# Altium schematic symbol library NEO-M8.SchLib: 1 symbol
Pins are listed as number, name and electrical type; pins without a type are passive.

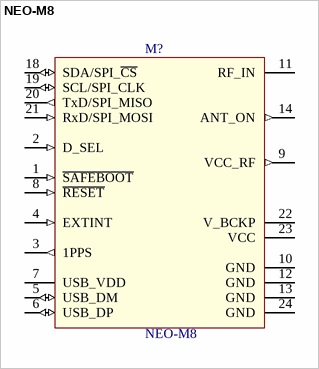
[diagram p0: symbol NEO-M8]

## NEO-M8
designator M?
NEO-M8 concurrent GNSS modules; value: NEO-M8
footprint NEO-M8N (UBlox GNSS module)
pins: 1 ~{SAFEBOOT} (in) "Reserved for future service, updates and reconfiguration, leave OPEN", 2 D_SEL (in), 3 1PPS (out), 4 EXTINT (in), 5 USB_DM (io), 6 USB_DP (io), 7 USB_VDD (power), 8 ~{RESET} (in), 9 VCC_RF (out), 10 GND (power), 11 RF_IN, 12 GND (power), 13 GND (power), 14 ANT_ON (out) "Antenna control", 18 SDA/SPI_~{CS} (io) "DDC Data if D_SEL =1 (or open)  SPI Chip Select if D_SEL = 0", 19 SCL/SPI_CLK (io) "DDC Clock if D_SEL =1(or open)  SPI Clock if D_SEL = 0", 20 TxD/SPI_MISO (out) "Serial Port if D_SEL =1(or open)  SPI MISO if D_SEL = 0", 21 RxD/SPI_MOSI (in) "Serial Port if D_SEL =1(or open)  SPI MOSI if D_SEL = 0", 22 V_BCKP (power) "Backup voltage supply", 23 VCC (power), 24 GND (power)